# EAGLE library part PIC16F1823 (library microchip)
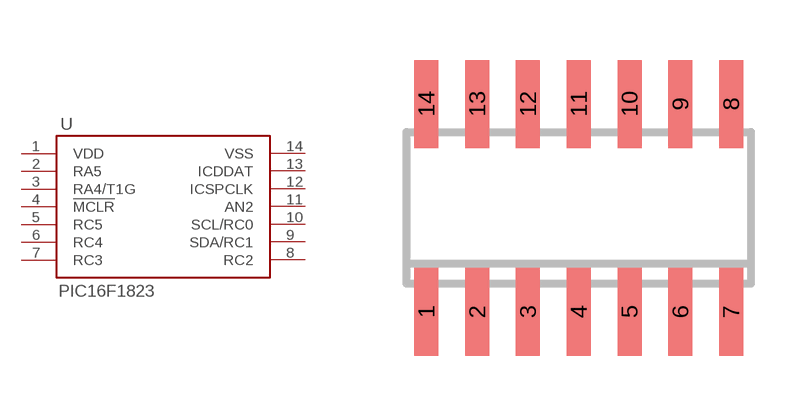
[diagram p136: symbol with the pads of SO-14; footprint SO-14]

Designator prefix -

## PIC16F1823  [SO-14]
1  VDD  pwr
2  RA5
3  RA4/T1G
4  !MCLR
5  RC5
6  RC4
7  RC3
8  RC2
9  SDA/RC1
10  SCL/RC0
11  AN2
12  ICSPCLK
13  ICDDAT
14  VSS  pwr

## Footprint SO-14 (pad centres in mm)
Small Outline Narrow Plastic Gull Wing 150-mil body, package type SL
smd 0.6 x 2.2: 1 -3.81,-2.6; 2 -2.54,-2.6; 3 -1.27,-2.6; 4 0,-2.6; 5 1.27,-2.6; 6 2.54,-2.6; 7 3.81,-2.6; 8 3.81,2.6; 9 2.54,2.6; 10 1.27,2.6; 11 0,2.6; 12 -1.27,2.6; 13 -2.54,2.6; 14 -3.81,2.6